# Altium footprint library Optical Components.PcbLib: 3 footprints
Each footprint in its own frame and in the unit in brackets; x right, y up, seen from the top. Pads: shape width x height; smd on the part's side, far side on the other; paste and mask are expansions set on the pad; w line width, h text height; cw(c..) or ccw(c..) is an arc to the next point about the centre after c.
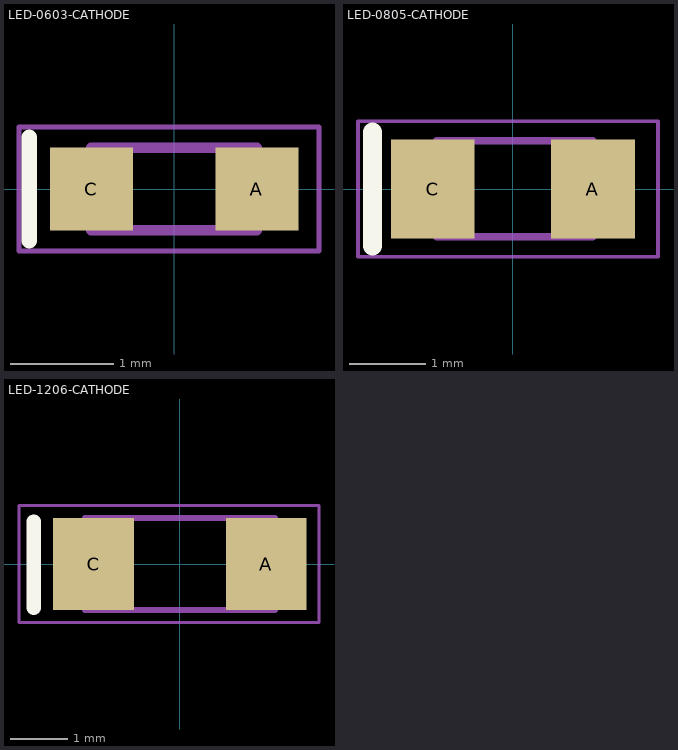
[diagram p0: the footprints below, top view; thin cyan lines are the x and y axes]

## LED-0603-CATHODE [mm] "0603 Led cathode marking"
height 0.7
pads (2):
  rect 0.8x0.8 smd: A(0.8,0) C(-0.8,0)
Top Overlay:
  lines w0.15: -1.4,-0.5 -1.4,0.5
Top Assembly:
  lines w0.1: -0.8,-0.4 -0.8,0.4 0.8,0.4 0.8,-0.4 -0.8,-0.4
Top Courtyard:
  lines w0.05: -1.5,-0.6 1.4,-0.6 1.4,0.6 -1.5,0.6 -1.5,-0.6
Top Designator:
  text ".Designator" at -2.499,-0.167 h0.5
3D body "STP_150060xS75000 (rev1).stp": height 0.7, standoff 0, extent -0.8,-0.4 0.8,0.4

## LED-0805-CATHODE [mm] "0805 Led cathode marking"
height 0.7
pads (2):
  rect 1.1x1.3 smd: A(1.05,0) C(-1.05,0)
Top Overlay:
  lines w0.25: -1.84,-0.75 -1.84,0.75
Top Assembly:
  lines w0.1: -1,-0.625 1.05,-0.625 1.05,0.635 -1,0.635 -1,-0.625
Top Courtyard:
  lines w0.05: -2.032,-0.889 -2.032,0.889 1.905,0.889 1.905,-0.889 -2.032,-0.889
Top Designator:
  text ".Designator" at -2.999,-0.2 h0.6
3D body "Download_STP_WL-SMCW-0805 (rev1).stp": height 0.7, standoff 0, extent -1,-0.62 1,0.63

## LED-1206-CATHODE [mm] "1206 Led cathode marking"
height 0.7
pads (2):
  rect 1.4x1.6 smd: A(1.5,0) C(-1.5,0)
Top Overlay:
  lines w0.25: -2.54,-0.762 -2.54,0.738
Top Assembly:
  lines w0.1: -1.651,-0.8 -1.651,0.8 1.651,0.8 1.651,-0.8 -1.651,-0.8
Top Courtyard:
  lines w0.05: -2.794,-1.016 -2.794,1.016 2.413,1.016 2.413,-1.016 -2.794,-1.016
Top Designator:
  text ".Designator" at -2.999,-0.2 h0.6
3D body "Download_STP_WL-SMCW-1206 (rev1).stp": height 0.68, standoff 0, extent -1.6,-0.8 1.6,0.8